# EAGLE library part CY74FCT2541 (library NASA_LIB)
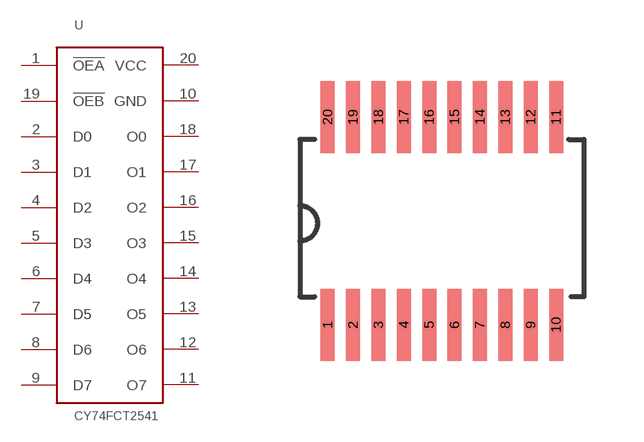
[diagram p14: symbol with the pads of QSOP-20; footprint QSOP-20]

Designator prefix -

## CY74FCT2541  [QSOP-20]
1  !OEA
2  D0
3  D1
4  D2
5  D3
6  D4
7  D5
8  D6
9  D7
10  GND
11  O7
12  O6
13  O5
14  O4
15  O3
16  O2
17  O1
18  O0
19  !OEB
20  VCC

## Footprint QSOP-20 (pad centres in mm)
smd 0.35 x 1.8: 1 -2.857,-2.6; 2 -2.223,-2.6; 3 -1.587,-2.6; 4 -0.953,-2.6; 5 -0.318,-2.6; 6 0.318,-2.6; 7 0.953,-2.6; 8 1.587,-2.6; 9 2.223,-2.6; 10 2.857,-2.6; 11 2.857,2.6; 12 2.223,2.6; 13 1.587,2.6; 14 0.953,2.6; 15 0.318,2.6; 16 -0.318,2.6; 17 -0.953,2.6; 18 -1.587,2.6; 19 -2.223,2.6; 20 -2.857,2.6